# Altium integrated library WE-PBF_rev15a.intlib: 6 symbols
Pins are listed as number, name and electrical type; pins without a type are passive.

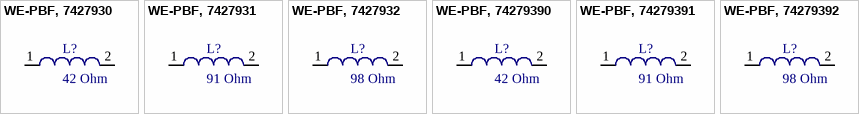
[diagram p0: symbols WE-PBF, 7427930 to WE-PBF, 74279392]

## WE-PBF, 7427930
designator L?, comment 42 Ohm
SMD Power Bead Ferrite WE-PBF, Z= 42 Ohm; partNo: 7427930; Manufacturer: Würth Elektronik eiSos GmbH; Impedance: 42 Ohm; ComponentLink1Description: Manufacturer; ComponentLink1URL: http://www.we-online.de; Created by: Christin Zierenner; Created Date: June 2010; ComponentLink2Description: Datasheet; ComponentLink2URL: http://www.we-online.de/katalog/media/pdf/7427930.pdf
footprint PBF_7427930 (Molded Inductor, 2-Leads, Body 4,0x3,0mm)
pins: 1, 2

## WE-PBF, 7427931
designator L?, comment 91 Ohm
SMD Power Bead Ferrite WE-PBF, Z= 91 Ohm; partNo: 7427931; Manufacturer: Würth Elektronik eiSos GmbH; Impedance: 91 Ohm; ComponentLink1Description: Manufacturer; ComponentLink1URL: http://www.we-online.de; Created by: Christin Zierenner; Created Date: June 2010; ComponentLink2Description: Datasheet; ComponentLink2URL: http://www.we-online.de/katalog/media/pdf/7427931.pdf
footprint PBF_7427931 (Molded Inductor, 2-Leads, Body 8,5x3,0mm)
pins: 1, 2

## WE-PBF, 7427932
designator L?, comment 98 Ohm
SMD Power Bead Ferrite WE-PBF, Z= 98 Ohm; partNo: 7427932; Manufacturer: Würth Elektronik eiSos GmbH; Impedance: 98 Ohm; ComponentLink1Description: Manufacturer; ComponentLink1URL: http://www.we-online.de; Created by: Christin Zierenner; Created Date: June 2010; ComponentLink2Description: Datasheet; ComponentLink2URL: http://www.we-online.de/katalog/media/pdf/7427932.pdf
footprint PBF_7427932 (Molded Inductor, 2-Leads, Body 7,8x4,75mm)
pins: 1, 2

## WE-PBF, 74279390
designator L?, comment 42 Ohm
SMD Power Bead Ferrite WE-PBF, Z= 42 Ohm, glued version; partNo: 74279390; Manufacturer: Würth Elektronik eiSos GmbH; Impedance: 42 Ohm; ComponentLink1Description: Manufacturer; ComponentLink1URL: http://www.we-online.de; Created by: Christin Zierenner; Created Date: June 2010; ComponentLink2Description: Datasheet; ComponentLink2URL: http://www.we-online.de/katalog/media/pdf/74279390.pdf
footprint PBF_7427930 (Molded Inductor, 2-Leads, Body 4,0x3,0mm)
pins: 1, 2

## WE-PBF, 74279391
designator L?, comment 91 Ohm
SMD Power Bead Ferrite WE-PBF, Z= 91 Ohm, glued version; partNo: 74279391; Manufacturer: Würth Elektronik eiSos GmbH; Impedance: 91 Ohm; ComponentLink1Description: Manufacturer; ComponentLink1URL: http://www.we-online.de; Created by: Christin Zierenner; Created Date: June 2010; ComponentLink2Description: Datasheet; ComponentLink2URL: http://www.we-online.de/katalog/media/pdf/74279391.pdf
footprint PBF_7427931 (Molded Inductor, 2-Leads, Body 8,5x3,0mm)
pins: 1, 2

## WE-PBF, 74279392
designator L?, comment 98 Ohm
SMD Power Bead Ferrite WE-PBF, Z= 98 Ohm; partNo: 74279392; Manufacturer: Würth Elektronik eiSos GmbH; Impedance: 98 Ohm; ComponentLink1Description: Manufacturer; ComponentLink1URL: http://www.we-online.de; Created by: Christin Zierenner; Created Date: June 2010; ComponentLink2Description: Datasheet; ComponentLink2URL: http://www.we-online.de/katalog/media/pdf/74279392.pdf
footprint PBF_7427932 (Molded Inductor, 2-Leads, Body 7,8x4,75mm)
pins: 1, 2